# Altium schematic symbol library LCD.SchLib: 1 symbol
Pins are listed as number, name and electrical type; pins without a type are passive.

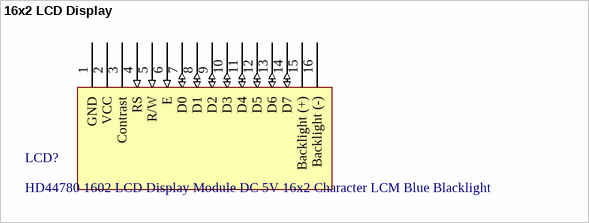
[diagram p0: symbol 16x2 LCD Display]

## 16x2 LCD Display
designator LCD?, comment HD44780 1602 LCD Display Module DC 5V 16x2 Character LCM Blue Blacklight
1602 standard 16-pin interface, including: / Pin 1: VSS is the ground power. / 2 feet: VDD then 5V positive power supply. / 3 feet: V0 LCD contrast adjustment end, then the positive power supply when the contrast is the weakest, the highest contrast when grounded power, the contrast is too high will have a "ghosting", when used by a 10K potentiometer to adjust the contrast. / 4 feet: RS for the register selection, high-level data register selection, low-level instruction register selection. / 5 feet: R / W for the read and write signal lines, high-level read operation, low-level write operation. / 6th foot: E end is enable end, when E end jumps from high level to low level, the liquid crystal module carries out the order. / 7 ~ 14 feet: D0 ~ D7 for the 8-bit bidirectional data lines. / 15 feet: the positive power supply backlight / 16th foot: backlight power negative /
pins: 1 GND (power), 2 VCC (power), 3 Contrast, 4 RS (in), 5 R/W (in), 6 E (in), 7 D0 (io), 8 D1 (io), 9 D2 (io), 10 D3 (io), 11 D4 (io), 12 D5 (io), 13 D6 (io), 14 D7 (io), 15 Backlight (+) (power), 16 Backlight (-) (power)